# Altium footprint library g-SWITCH-M6x6A5-4T_TH.PcbLib: 1 footprints
Each footprint in its own frame and in the unit in brackets; x right, y up, seen from the top. Pads: shape width x height; smd on the part's side, far side on the other; paste and mask are expansions set on the pad; w line width, h text height; cw(c..) or ccw(c..) is an arc to the next point about the centre after c.
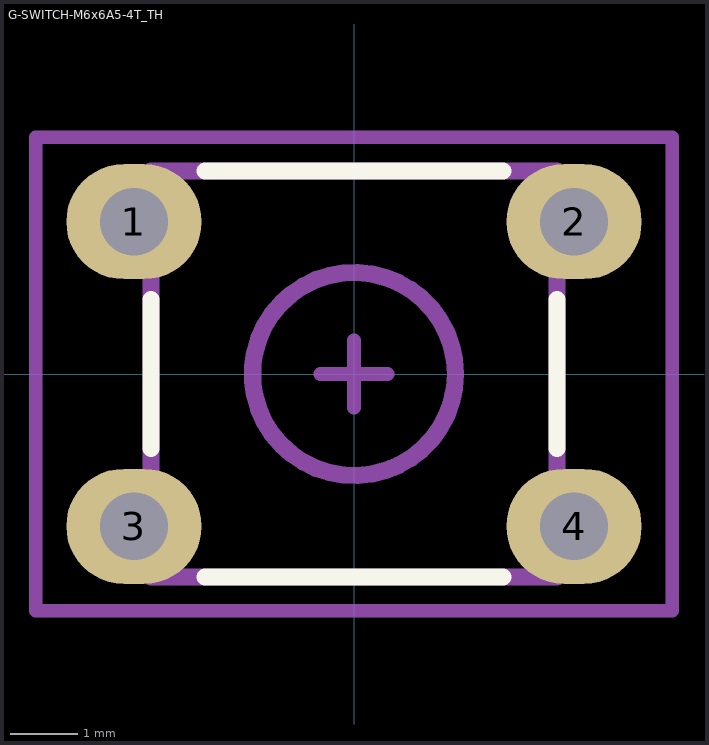
[diagram p0: the footprint, top view; thin cyan lines are the x and y axes]

## G-SWITCH-M6x6A5-4T_TH [mm] "Tactile Switch, 6x6mm, Though Hole, 5mm Height"
height 5
pads (4):
  oval 2x1.7 hole 1: 1(-3.25,2.25) 2(3.25,2.25) 3(-3.25,-2.25) 4(3.25,-2.25)
Top Overlay:
  lines w0.254: -3,-1.1 -3,1.1 ; -2.2,-3 2.2,-3 ; -2.2,3 2.2,3 ; 3,-1.1 3,1.1
Mechanical 13:
  circle w0.254: c0,0 r1.5
  lines w0.254: -3,-3 3,-3 3,3 -3,3 -3,-3
Mechanical 15:
  lines w0.2: -0.5,0 0.5,0 ; 0,-0.5 0,0.5 ; -4.7,-3.5 -4.7,3.5 -3.8,3.5 4.7,3.5 4.7,-3.5 -4.7,-3.5
3D body: height 4.95, standoff -3.38, extent -3.8,-3.104 3.891,2.903